# Altium integrated library Integrated_Library - 03.05.18 - 00.58.IntLib: 1 symbol
Pins are listed as number, name and electrical type; pins without a type are passive.

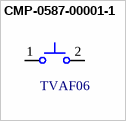
[diagram p0: symbol CMP-0587-00001-1]

## CMP-0587-00001-1
designator ?, comment TVAF06
Switch, SPST Push Button, 50 mA, 12 V DC, SMD, -30 to 85 degC, RoHS; Manufacturer: Jianfu; Insulation Resistance: 100 MW min. 100 V DC; Lifetime: 100000 Cycles min; Rating: 50 mA. 12 V DC; Travel: 0.13 +/- 0.05 mm; Contact Resistance: 100 mW max; Dielectric Strength: 250 V AC for 1 min; PackageReference: TVAF06; RoHS: TRUE; Operating Temperature: -30 to 85 degC; PartNumber: TVAF06; Mounting Technology: Surface Mount; ComponentLink2URL: http://en.jian-fu.com/product-22.html; ComponentLink1Description: Manufacturer URL; ComponentLink2Description: Datasheet; ComponentLink1URL: http://www.jian-fu.com/; PackageDescription: 2-Pin Switch, Push Button, SMD, Body 2.9 x 3.9 mm
footprint JNFU-TVAF06_V (Switch, Push Button, SMD, 2-Leads, Body 3x4mm)
pins: 1, 2